# Altium schematic symbol library SnapEDAsch.SchLib: 1 symbol
Pins are listed as number, name and electrical type; pins without a type are passive.

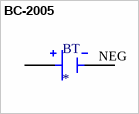
[diagram p0: symbol BC-2005]

## BC-2005
designator BT
Battery Retainer Coin, 24.0mm 1 Cell SMD _SMT_ Tab; MF: MPD _Memory Protection Devices_; MP: BC-2005-TR; Value: *; Price: None; SnapEDA_Link: https://www.snapeda.com/parts/BC-2005-TR/MPD%20%28Memory%20Protection%20Devices%29/view-part/4449017/?ref=snap; Package: None; Availability: Unavailable
footprint BAT_BC-2005
footprint BAT_BC-2005
pins: NEG, S1+ POS, S2+ POS